# Altium footprint library 1462039-8.PcbLib: 1 footprints
Each footprint in its own frame and in the unit in brackets; x right, y up, seen from the top. Pads: shape width x height; smd on the part's side, far side on the other; paste and mask are expansions set on the pad; w line width, h text height; cw(c..) or ccw(c..) is an arc to the next point about the centre after c.
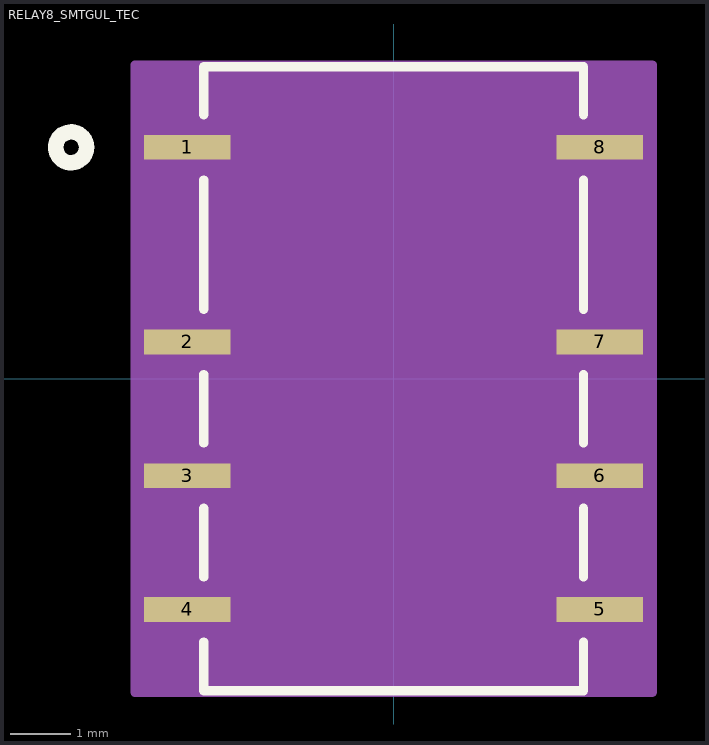
[diagram p0: the footprint, top view; thin cyan lines are the x and y axes]

## RELAY8_SMTGUL_TEC [mil]
pads (8):
  rect 56x16 smd paste+0 mask+0: 1(-133.5,149.76) 2(-133.5,23.77) 3(-133.5,-62.84) 4(-133.5,-149.46) 5(133.5,-149.46) 6(133.5,-62.84) 7(133.5,23.77) 8(133.5,149.76)
Top Overlay:
  circle w10: c-208.81,149.76 r10
  lines w6: -123,-170.56 -123,-202 123,-202 123,-170.56 ; -123,-128.36 -123,-83.94 ; -123,-41.74 -123,2.67 ; -123,44.87 -123,128.66 ; -123,170.86 -123,202 123,202 123,170.86 ; 123,-128.36 123,-83.94 ; 123,-41.74 123,2.67 ; 123,44.87 123,128.66
  text ".Designator" at -137.5,-25 h50
Mechanical 13:
  circle w1: c-95.5,149.76 r3
  lines w1: -12,197 ccw(c0,197) 12,197 ; -153.5,-157.46 -153.5,-141.46 -118,-141.46 -118,-157.46 -153.5,-157.46 ; -153.5,-70.84 -153.5,-54.84 -118,-54.84 -118,-70.84 -153.5,-70.84 ; -153.5,15.77 -153.5,31.77 -118,31.77 -118,15.77 -153.5,15.77 ; -153.5,141.76 -153.5,157.76 -118,157.76 -118,141.76 -153.5,141.76 ; -118,-197 118,-197 118,197 -118,197 -118,-197 ; 118,-157.46 118,-141.46 153.5,-141.46 153.5,-157.46 118,-157.46 ; 118,-70.84 118,-54.84 153.5,-54.84 153.5,-70.84 118,-70.84 ; 118,15.77 118,31.77 153.5,31.77 153.5,15.77 118,15.77 ; 118,141.76 118,157.76 153.5,157.76 153.5,141.76 118,141.76
  text ".Designator" at -137.5,-25 h50
Mechanical 15:
  region: 167.5,-203 -167.5,-203 -167.5,203 167.5,203
  lines w6: -167.5,-203 -167.5,203 167.5,203 167.5,-203 -167.5,-203